# EAGLE library part FP6298_FP6298 (library Poseidon-Baseboard-V1.1)
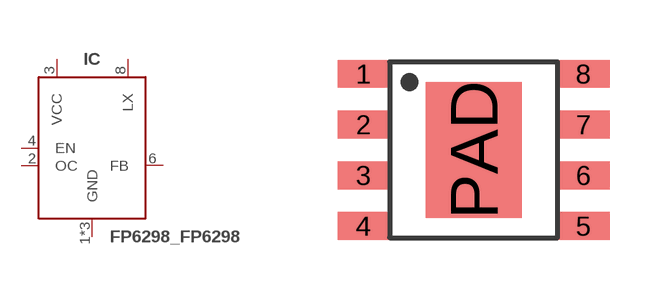
[diagram p0: symbol with the pads of FP6298_SOP-8; footprint FP6298_SOP-8]

Designator prefix IC

## FP6298_FP6298  [FP6298_SOP-8]
1  GND  pwr
2  OC  in
3  VCC  in
4  EN  in
5  GND  pwr
6  FB  in
8  LX  oc
PAD  GND  pwr

## Footprint FP6298_SOP-8 (pad centres in mm)
smd 1.3 x 0.7: 1 -2.75,1.905; 2 -2.75,0.635; 3 -2.75,-0.635; 4 -2.75,-1.905; 5 2.75,-1.905; 6 2.75,-0.635; 7 2.75,0.635; 8 2.75,1.905
smd 2.4 x 3.4: PAD 0,0